# EAGLE library part CH340C (library CH340C)
USB to serial chip CH340 Check availability <https://pricing.snapeda.com/parts/CH340C/WCH/view-part?ref=eda>
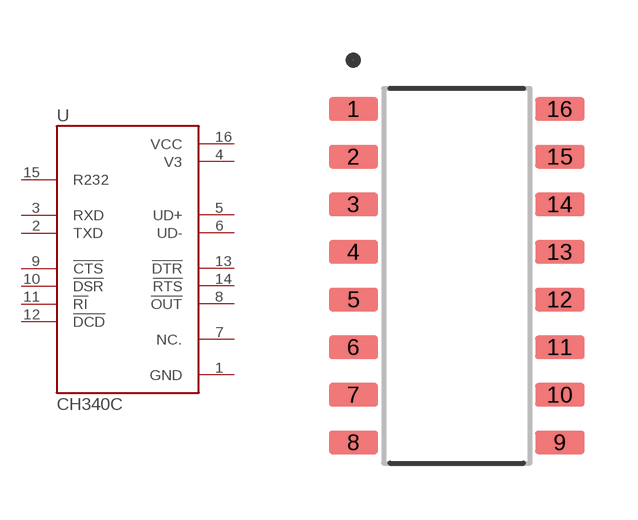
[diagram p0: symbol with the pads of SOIC127P600X180-16N; footprint SOIC127P600X180-16N]

Designator prefix U

## CH340C (Availability: Not in stock; Check_prices: https://www.snapeda.com/parts/CH340C/WCH/view-part/?ref=eda; Description: USB to serial chip CH340; MF: WCH; MP: CH340C; Package: None; Price: None; SnapEDA_Link: https://www.snapeda.com/parts/CH340C/WCH/view-part/?ref=snap)  [SOIC127P600X180-16N]
1  GND  pwr
2  TXD  out
3  RXD  in
4  V3  pwr
5  UD+
6  UD-
7  NC.  nc
8  !OUT  out
9  !CTS  in
10  !DSR  in
11  !RI  in
12  !DCD  in
13  !DTR  out
14  !RTS  out
15  R232  in
16  VCC  pwr

## Footprint SOIC127P600X180-16N (pad centres in mm)
smd 1.31 x 0.62: 1 -2.75,4.445; 2 -2.75,3.175; 3 -2.75,1.905; 4 -2.75,0.635; 5 -2.75,-0.635; 6 -2.75,-1.905; 7 -2.75,-3.175; 8 -2.75,-4.445; 9 2.75,-4.445; 10 2.75,-3.175; 11 2.75,-1.905; 12 2.75,-0.635; 13 2.75,0.635; 14 2.75,1.905; 15 2.75,3.175; 16 2.75,4.445